# EAGLE library part XCV1000_FG680 (library xilinx-xcv)
xcv1000_fg680_1532 edit this description Auto generated by make-symbol-device-package-bsdl.ulp Rev. 26 Source: xcv1000_fg680_1532.bsd
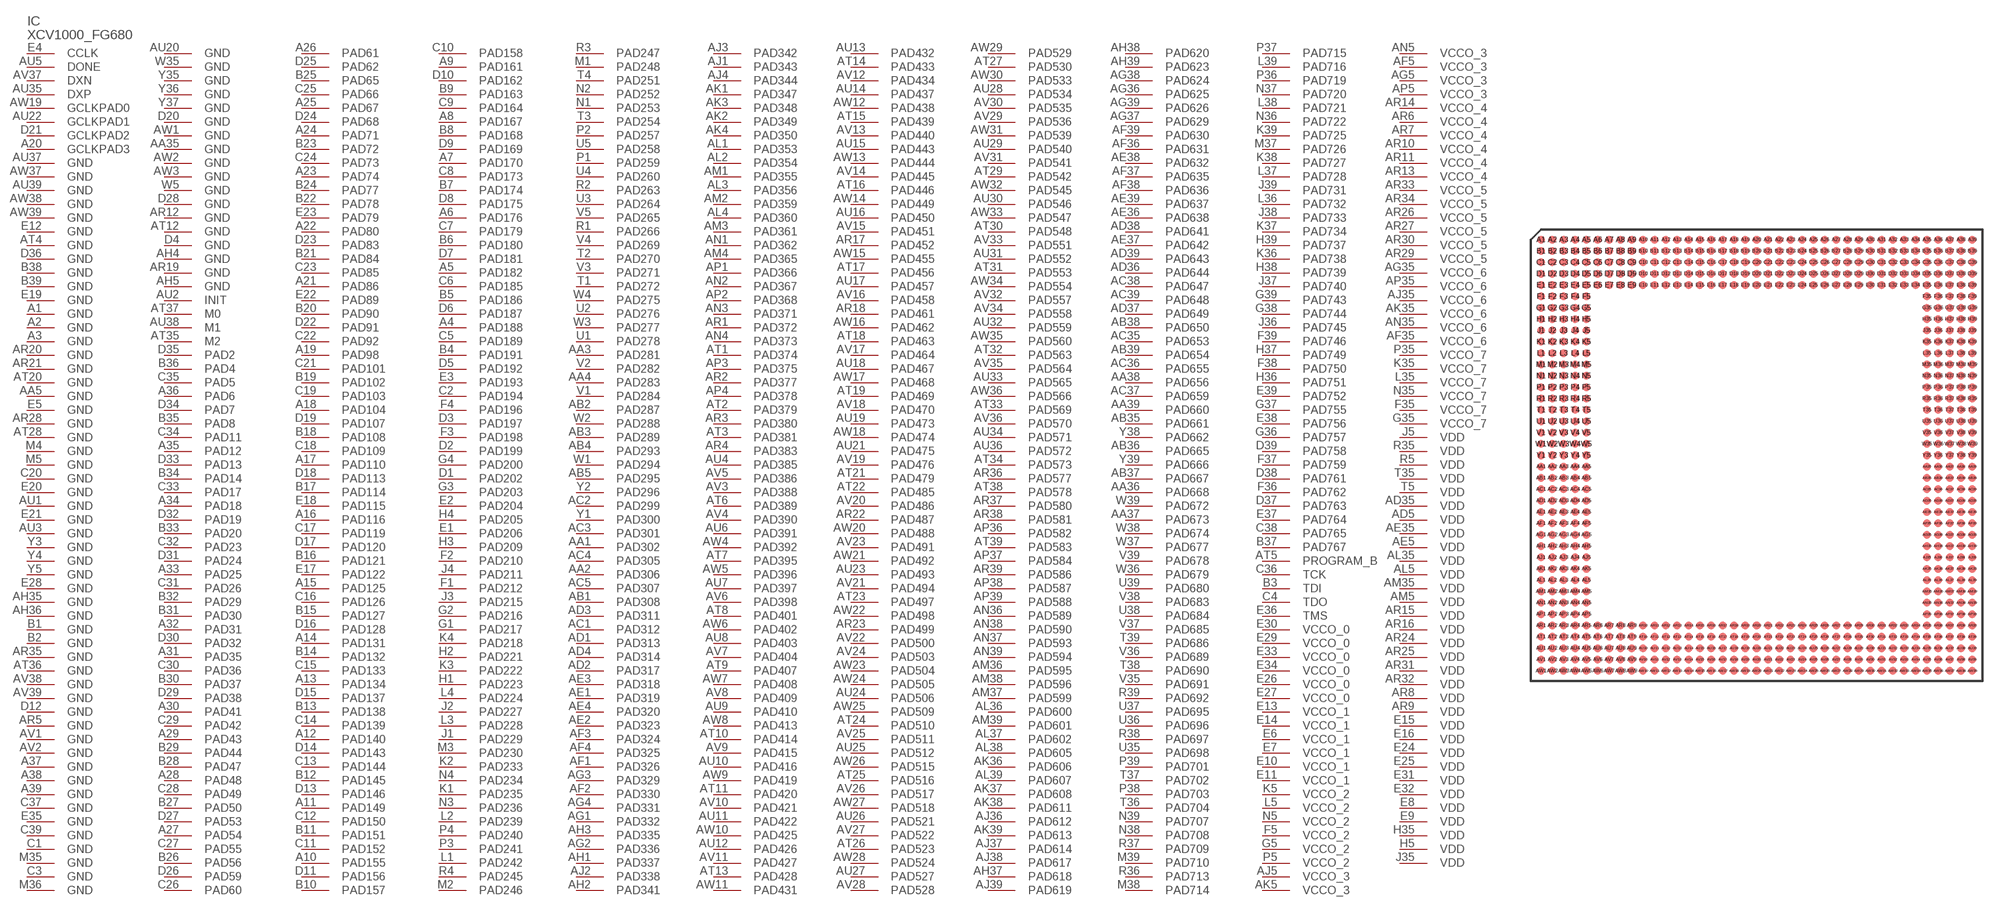
[diagram p7: symbol with the pads of FG680; footprint FG680]

Designator prefix IC

## XCV1000_FG680 (OC_FARNELL: unknown; OC_NEWARK: unknown)  [FG680]
A1  GND  pwr
A2  GND  pwr
A3  GND  pwr
A4  PAD188
A5  PAD182
A6  PAD176
A7  PAD170
A8  PAD167
A9  PAD161
A10  PAD155
A11  PAD149
A12  PAD140
A13  PAD134
A14  PAD131
A15  PAD125
A16  PAD116
A17  PAD110
A18  PAD104
A19  PAD98
A20  GCLKPAD3  in
A21  PAD86
A22  PAD80
A23  PAD74
A24  PAD71
A25  PAD67
A26  PAD61
A27  PAD54
A28  PAD48
A29  PAD43
A30  PAD41
A31  PAD35
A32  PAD31
A33  PAD25
A34  PAD18
A35  PAD12
A36  PAD6
A37  GND  pwr
A38  GND  pwr
A39  GND  pwr
AA1  PAD302
AA2  PAD306
AA3  PAD281
AA4  PAD283
AA5  GND  pwr
AA35  GND  pwr
AA36  PAD668
AA37  PAD673
AA38  PAD656
AA39  PAD660
AB1  PAD308
AB2  PAD287
AB3  PAD289
AB4  PAD293
AB5  PAD295
AB35  PAD661
AB36  PAD665
AB37  PAD667
AB38  PAD650
AB39  PAD654
AC1  PAD312
AC2  PAD299
AC3  PAD301
AC4  PAD305
AC5  PAD307
AC35  PAD653
AC36  PAD655
AC37  PAD659
AC38  PAD647
AC39  PAD648
AD1  PAD313
AD2  PAD317
AD3  PAD311
AD4  PAD314
AD5  VDD  pwr
AD35  VDD  pwr
AD36  PAD644
AD37  PAD649
AD38  PAD641
AD39  PAD643
AE1  PAD319
AE2  PAD323
AE3  PAD318
AE4  PAD320
AE5  VDD  pwr
AE35  VDD  pwr
AE36  PAD638
AE37  PAD642
AE38  PAD632
AE39  PAD637
AF1  PAD326
AF2  PAD330
AF3  PAD324
AF4  PAD325
AF5  VCCO_3  pwr
AF35  VCCO_6  pwr
AF36  PAD631
AF37  PAD635
AF38  PAD636
AF39  PAD630
AG1  PAD332
AG2  PAD336
AG3  PAD329
AG4  PAD331
AG5  VCCO_3  pwr
AG35  VCCO_6  pwr
AG36  PAD625
AG37  PAD629
AG38  PAD624
AG39  PAD626
AH1  PAD337
AH2  PAD341
AH3  PAD335
AH4  GND  pwr
AH5  GND  pwr
AH35  GND  pwr
AH36  GND  pwr
AH37  PAD618
AH38  PAD620
AH39  PAD623
AJ1  PAD343
AJ2  PAD338
AJ3  PAD342
AJ4  PAD344
AJ5  VCCO_3  pwr
AJ35  VCCO_6  pwr
AJ36  PAD612
AJ37  PAD614
AJ38  PAD617
AJ39  PAD619
AK1  PAD347
AK2  PAD349
AK3  PAD348
AK4  PAD350
AK5  VCCO_3  pwr
AK35  VCCO_6  pwr
AK36  PAD606
AK37  PAD608
AK38  PAD611
AK39  PAD613
AL1  PAD353
AL2  PAD354
AL3  PAD356
AL4  PAD360
AL5  VDD  pwr
AL35  VDD  pwr
AL36  PAD600
AL37  PAD602
AL38  PAD605
AL39  PAD607
AM1  PAD355
AM2  PAD359
AM3  PAD361
AM4  PAD365
AM5  VDD  pwr
AM35  VDD  pwr
AM36  PAD595
AM37  PAD599
AM38  PAD596
AM39  PAD601
AN1  PAD362
AN2  PAD367
AN3  PAD371
AN4  PAD373
AN5  VCCO_3  pwr
AN35  VCCO_6  pwr
AN36  PAD589
AN37  PAD593
AN38  PAD590
AN39  PAD594
AP1  PAD366
AP2  PAD368
AP3  PAD375
AP4  PAD378
AP5  VCCO_3  pwr
AP35  VCCO_6  pwr
AP36  PAD582
AP37  PAD584
AP38  PAD587
AP39  PAD588
AR1  PAD372
AR2  PAD377
AR3  PAD380
AR4  PAD383
AR5  GND  pwr
AR6  VCCO_4  pwr
AR7  VCCO_4  pwr
AR8  VDD  pwr
AR9  VDD  pwr
AR10  VCCO_4  pwr
AR11  VCCO_4  pwr
AR12  GND  pwr
AR13  VCCO_4  pwr
AR14  VCCO_4  pwr
AR15  VDD  pwr
AR16  VDD  pwr
AR17  PAD452
AR18  PAD461
AR19  GND  pwr
AR20  GND  pwr
AR21  GND  pwr
AR22  PAD487
AR23  PAD499
AR24  VDD  pwr
AR25  VDD  pwr
AR26  VCCO_5  pwr
AR27  VCCO_5  pwr
AR28  GND  pwr
AR29  VCCO_5  pwr
AR30  VCCO_5  pwr
AR31  VDD  pwr
AR32  VDD  pwr
AR33  VCCO_5  pwr
AR34  VCCO_5  pwr
AR35  GND  pwr
AR36  PAD577
AR37  PAD580
AR38  PAD581
AR39  PAD586
AT1  PAD374
AT2  PAD379
AT3  PAD381
AT4  GND  pwr
AT5  PROGRAM_B  in
AT6  PAD389
AT7  PAD395
AT8  PAD401
AT9  PAD407
AT10  PAD414
AT11  PAD420
AT12  GND  pwr
AT13  PAD428
AT14  PAD433
AT15  PAD439
AT16  PAD446
AT17  PAD456
AT18  PAD463
AT19  PAD469
AT20  GND  pwr
AT21  PAD479
AT22  PAD485
AT23  PAD497
AT24  PAD510
AT25  PAD516
AT26  PAD523
AT27  PAD530
AT28  GND  pwr
AT29  PAD542
AT30  PAD548
AT31  PAD553
AT32  PAD563
AT33  PAD569
AT34  PAD573
AT35  M2  in
AT36  GND  pwr
AT37  M0  in
AT38  PAD578
AT39  PAD583
AU1  GND  pwr
AU2  INIT
AU3  GND  pwr
AU4  PAD385
AU5  DONE
AU6  PAD391
AU7  PAD397
AU8  PAD403
AU9  PAD410
AU10  PAD416
AU11  PAD422
AU12  PAD426
AU13  PAD432
AU14  PAD437
AU15  PAD443
AU16  PAD450
AU17  PAD457
AU18  PAD467
AU19  PAD473
AU20  GND  pwr
AU21  PAD475
AU22  GCLKPAD1  in
AU23  PAD493
AU24  PAD506
AU25  PAD512
AU26  PAD521
AU27  PAD527
AU28  PAD534
AU29  PAD540
AU30  PAD546
AU31  PAD552
AU32  PAD559
AU33  PAD565
AU34  PAD571
AU35  DXP  pas
AU36  PAD572
AU37  GND  pwr
AU38  M1  in
AU39  GND  pwr
AV1  GND  pwr
AV2  GND  pwr
AV3  PAD388
AV4  PAD390
AV5  PAD386
AV6  PAD398
AV7  PAD404
AV8  PAD409
AV9  PAD415
AV10  PAD421
AV11  PAD427
AV12  PAD434
AV13  PAD440
AV14  PAD445
AV15  PAD451
AV16  PAD458
AV17  PAD464
AV18  PAD470
AV19  PAD476
AV20  PAD486
AV21  PAD494
AV22  PAD500
AV23  PAD491
AV24  PAD503
AV25  PAD511
AV26  PAD517
AV27  PAD522
AV28  PAD528
AV29  PAD536
AV30  PAD535
AV31  PAD541
AV32  PAD557
AV33  PAD551
AV34  PAD558
AV35  PAD564
AV36  PAD570
AV37  DXN  pas
AV38  GND  pwr
AV39  GND  pwr
AW1  GND  pwr
AW2  GND  pwr
AW3  GND  pwr
AW4  PAD392
AW5  PAD396
AW6  PAD402
AW7  PAD408
AW8  PAD413
AW9  PAD419
AW10  PAD425
AW11  PAD431
AW12  PAD438
AW13  PAD444
AW14  PAD449
AW15  PAD455
AW16  PAD462
AW17  PAD468
AW18  PAD474
AW19  GCLKPAD0  in
AW20  PAD488
AW21  PAD492
AW22  PAD498
AW23  PAD504
AW24  PAD505
AW25  PAD509
AW26  PAD515
AW27  PAD518
AW28  PAD524
AW29  PAD529
AW30  PAD533
AW31  PAD539
AW32  PAD545
AW33  PAD547
AW34  PAD554
AW35  PAD560
AW36  PAD566
AW37  GND  pwr
AW38  GND  pwr
AW39  GND  pwr
B1  GND  pwr
B2  GND  pwr
B3  TDI  in
B4  PAD191
B5  PAD186
B6  PAD180
B7  PAD174
B8  PAD168
B9  PAD163
B10  PAD157
B11  PAD151
B12  PAD145
B13  PAD138
B14  PAD132
B15  PAD127
B16  PAD121
B17  PAD114
B18  PAD108
B19  PAD102
B20  PAD90
B21  PAD84
B22  PAD78
B23  PAD72
B24  PAD77
B25  PAD65
B26  PAD56
B27  PAD50
B28  PAD47
B29  PAD44
B30  PAD37
B31  PAD30
B32  PAD29
B33  PAD20
B34  PAD14
B35  PAD8
B36  PAD4
B37  PAD767
B38  GND  pwr
B39  GND  pwr
C1  GND  pwr
C2  PAD194
C3  GND  pwr
C4  TDO  out
C5  PAD189
C6  PAD185
C7  PAD179
C8  PAD173
C9  PAD164
C10  PAD158
C11  PAD152
C12  PAD150
C13  PAD144
C14  PAD139
C15  PAD133
C16  PAD126
C17  PAD119
C18  PAD109
C19  PAD103
C20  GND  pwr
C21  PAD101
C22  PAD92
C23  PAD85
C24  PAD73
C25  PAD66
C26  PAD60
C27  PAD55
C28  PAD49
C29  PAD42
C30  PAD36
C31  PAD26
C32  PAD23
C33  PAD17
C34  PAD11
C35  PAD5
C36  TCK  in
C37  GND  pwr
C38  PAD765
C39  GND  pwr
D1  PAD202
D2  PAD199
D3  PAD197
D4  GND  pwr
D5  PAD192
D6  PAD187
D7  PAD181
D8  PAD175
D9  PAD169
D10  PAD162
D11  PAD156
D12  GND  pwr
D13  PAD146
D14  PAD143
D15  PAD137
D16  PAD128
D17  PAD120
D18  PAD113
D19  PAD107
D20  GND  pwr
D21  GCLKPAD2  in
D22  PAD91
D23  PAD83
D24  PAD68
D25  PAD62
D26  PAD59
D27  PAD53
D28  GND  pwr
D29  PAD38
D30  PAD32
D31  PAD24
D32  PAD19
D33  PAD13
D34  PAD7
D35  PAD2
D36  GND  pwr
D37  PAD763
D38  PAD761
D39  PAD758
E1  PAD206
E2  PAD204
E3  PAD193
E4  CCLK
E5  GND  pwr
E6  VCCO_1  pwr
E7  VCCO_1  pwr
E8  VDD  pwr
E9  VDD  pwr
E10  VCCO_1  pwr
E11  VCCO_1  pwr
E12  GND  pwr
E13  VCCO_1  pwr
E14  VCCO_1  pwr
E15  VDD  pwr
E16  VDD  pwr
E17  PAD122
E18  PAD115
E19  GND  pwr
E20  GND  pwr
E21  GND  pwr
E22  PAD89
E23  PAD79
E24  VDD  pwr
E25  VDD  pwr
E26  VCCO_0  pwr
E27  VCCO_0  pwr
E28  GND  pwr
E29  VCCO_0  pwr
E30  VCCO_0  pwr
E31  VDD  pwr
E32  VDD  pwr
E33  VCCO_0  pwr
E34  VCCO_0  pwr
E35  GND  pwr
E36  TMS  in
E37  PAD764
E38  PAD756
E39  PAD752
F1  PAD212
F2  PAD210
F3  PAD198
F4  PAD196
F5  VCCO_2  pwr
F35  VCCO_7  pwr
F36  PAD762
F37  PAD759
F38  PAD750
F39  PAD746
G1  PAD217
G2  PAD216
G3  PAD203
G4  PAD200
G5  VCCO_2  pwr
G35  VCCO_7  pwr
G36  PAD757
G37  PAD755
G38  PAD744
G39  PAD743
H1  PAD223
H2  PAD221
H3  PAD209
H4  PAD205
H5  VDD  pwr
H35  VDD  pwr
H36  PAD751
H37  PAD749
H38  PAD739
H39  PAD737
J1  PAD229
J2  PAD227
J3  PAD215
J4  PAD211
J5  VDD  pwr
J35  VDD  pwr
J36  PAD745
J37  PAD740
J38  PAD733
J39  PAD731
K1  PAD235
K2  PAD233
K3  PAD222
K4  PAD218
K5  VCCO_2  pwr
K35  VCCO_7  pwr
K36  PAD738
K37  PAD734
K38  PAD727
K39  PAD725
L1  PAD242
L2  PAD239
L3  PAD228
L4  PAD224
L5  VCCO_2  pwr
L35  VCCO_7  pwr
L36  PAD732
L37  PAD728
L38  PAD721
L39  PAD716
M1  PAD248
M2  PAD246
M3  PAD230
M4  GND  pwr
M5  GND  pwr
M35  GND  pwr
M36  GND  pwr
M37  PAD726
M38  PAD714
M39  PAD710
N1  PAD253
N2  PAD252
N3  PAD236
N4  PAD234
N5  VCCO_2  pwr
N35  VCCO_7  pwr
N36  PAD722
N37  PAD720
N38  PAD708
N39  PAD707
P1  PAD259
P2  PAD257
P3  PAD241
P4  PAD240
P5  VCCO_2  pwr
P35  VCCO_7  pwr
P36  PAD719
P37  PAD715
P38  PAD703
P39  PAD701
R1  PAD266
R2  PAD263
R3  PAD247
R4  PAD245
R5  VDD  pwr
R35  VDD  pwr
R36  PAD713
R37  PAD709
R38  PAD697
R39  PAD692
T1  PAD272
T2  PAD270
T3  PAD254
T4  PAD251
T5  VDD  pwr
T35  VDD  pwr
T36  PAD704
T37  PAD702
T38  PAD690
T39  PAD686
U1  PAD278
U2  PAD276
U3  PAD264
U4  PAD260
U5  PAD258
U35  PAD698
U36  PAD696
U37  PAD695
U38  PAD684
U39  PAD680
V1  PAD284
V2  PAD282
V3  PAD271
V4  PAD269
V5  PAD265
V35  PAD691
V36  PAD689
V37  PAD685
V38  PAD683
V39  PAD678
W1  PAD294
W2  PAD288
W3  PAD277
W4  PAD275
W5  GND  pwr
W35  GND  pwr
W36  PAD679
W37  PAD677
W38  PAD674
W39  PAD672
Y1  PAD300
Y2  PAD296
Y3  GND  pwr
Y4  GND  pwr
Y5  GND  pwr
Y35  GND  pwr
Y36  GND  pwr
Y37  GND  pwr
Y38  PAD662
Y39  PAD666

## Footprint FG680 (pad centres in mm)
xcv1000_fg680_1532 edit this description Auto generated by make-symbol-device-package-bsdl.ulp Rev. 26 Source: xcv1000_fg680_1532.bsd
smd 0.7 x 0.7: A1 -19,19; A2 -18,19; A3 -17,19; A4 -16,19; A5 -15,19; A6 -14,19; A7 -13,19; A8 -12,19; A9 -11,19; A10 -10,19; A11 -9,19; A12 -8,19; A13 -7,19; A14 -6,19; A15 -5,19; A16 -4,19; A17 -3,19; A18 -2,19; A19 -1,19; A20 0,19; A21 1,19; A22 2,19; A23 3,19; A24 4,19; A25 5,19; A26 6,19; A27 7,19; A28 8,19; A29 9,19; A30 10,19; A31 11,19; A32 12,19; A33 13,19; A34 14,19; A35 15,19; A36 16,19; A37 17,19; A38 18,19; A39 19,19; AA1 -19,-1; AA2 -18,-1; AA3 -17,-1; AA4 -16,-1; AA5 -15,-1; AA35 15,-1; AA36 16,-1; AA37 17,-1; AA38 18,-1; AA39 19,-1; AB1 -19,-2; AB2 -18,-2; AB3 -17,-2; AB4 -16,-2; AB5 -15,-2; AB35 15,-2; AB36 16,-2; AB37 17,-2; AB38 18,-2; AB39 19,-2; AC1 -19,-3; AC2 -18,-3; AC3 -17,-3; AC4 -16,-3; AC5 -15,-3; AC35 15,-3; AC36 16,-3; AC37 17,-3; AC38 18,-3; AC39 19,-3; AD1 -19,-4; AD2 -18,-4; AD3 -17,-4; AD4 -16,-4; AD5 -15,-4; AD35 15,-4; AD36 16,-4; AD37 17,-4; AD38 18,-4; AD39 19,-4; AE1 -19,-5; AE2 -18,-5; AE3 -17,-5; AE4 -16,-5; AE5 -15,-5; AE35 15,-5; AE36 16,-5; AE37 17,-5; AE38 18,-5; AE39 19,-5; AF1 -19,-6; AF2 -18,-6; AF3 -17,-6; AF4 -16,-6; AF5 -15,-6; AF35 15,-6; AF36 16,-6; AF37 17,-6; AF38 18,-6; AF39 19,-6; AG1 -19,-7; AG2 -18,-7; AG3 -17,-7; AG4 -16,-7; AG5 -15,-7; AG35 15,-7; AG36 16,-7; AG37 17,-7; AG38 18,-7; AG39 19,-7; AH1 -19,-8; AH2 -18,-8; AH3 -17,-8; AH4 -16,-8; AH5 -15,-8; AH35 15,-8; AH36 16,-8; AH37 17,-8; AH38 18,-8; AH39 19,-8; AJ1 -19,-9; AJ2 -18,-9; AJ3 -17,-9; AJ4 -16,-9; AJ5 -15,-9; AJ35 15,-9; AJ36 16,-9; AJ37 17,-9; AJ38 18,-9; AJ39 19,-9; AK1 -19,-10; AK2 -18,-10; AK3 -17,-10; AK4 -16,-10; AK5 -15,-10; AK35 15,-10; AK36 16,-10; AK37 17,-10; AK38 18,-10; AK39 19,-10; AL1 -19,-11; AL2 -18,-11; AL3 -17,-11; AL4 -16,-11; AL5 -15,-11; AL35 15,-11; AL36 16,-11; AL37 17,-11; AL38 18,-11; AL39 19,-11; AM1 -19,-12; AM2 -18,-12; AM3 -17,-12; AM4 -16,-12; AM5 -15,-12; AM35 15,-12; AM36 16,-12; AM37 17,-12; AM38 18,-12; AM39 19,-12; AN1 -19,-13; AN2 -18,-13; AN3 -17,-13; AN4 -16,-13; AN5 -15,-13; AN35 15,-13; AN36 16,-13; AN37 17,-13; AN38 18,-13; AN39 19,-13; AP1 -19,-14; AP2 -18,-14; AP3 -17,-14; AP4 -16,-14; AP5 -15,-14; AP35 15,-14; AP36 16,-14; AP37 17,-14; AP38 18,-14; AP39 19,-14; AR1 -19,-15; AR2 -18,-15; AR3 -17,-15; AR4 -16,-15; AR5 -15,-15; AR6 -14,-15; AR7 -13,-15; AR8 -12,-15; AR9 -11,-15; AR10 -10,-15; AR11 -9,-15; AR12 -8,-15; AR13 -7,-15; AR14 -6,-15; AR15 -5,-15; AR16 -4,-15; AR17 -3,-15; AR18 -2,-15; AR19 -1,-15; AR20 0,-15; AR21 1,-15; AR22 2,-15; AR23 3,-15; AR24 4,-15; AR25 5,-15; AR26 6,-15; AR27 7,-15; AR28 8,-15; AR29 9,-15; AR30 10,-15; AR31 11,-15; AR32 12,-15; AR33 13,-15; AR34 14,-15; AR35 15,-15; AR36 16,-15; AR37 17,-15; AR38 18,-15; AR39 19,-15; AT1 -19,-16; AT2 -18,-16; AT3 -17,-16; AT4 -16,-16; AT5 -15,-16; AT6 -14,-16; AT7 -13,-16; AT8 -12,-16; AT9 -11,-16; AT10 -10,-16; AT11 -9,-16; AT12 -8,-16; AT13 -7,-16; AT14 -6,-16; AT15 -5,-16; AT16 -4,-16; AT17 -3,-16; AT18 -2,-16; AT19 -1,-16; AT20 0,-16; AT21 1,-16; AT22 2,-16; AT23 3,-16; AT24 4,-16; AT25 5,-16; AT26 6,-16; AT27 7,-16; AT28 8,-16; AT29 9,-16; AT30 10,-16; AT31 11,-16; AT32 12,-16; AT33 13,-16; AT34 14,-16; AT35 15,-16; AT36 16,-16; AT37 17,-16; AT38 18,-16; AT39 19,-16; AU1 -19,-17; AU2 -18,-17; AU3 -17,-17; AU4 -16,-17; AU5 -15,-17; AU6 -14,-17; AU7 -13,-17; AU8 -12,-17; AU9 -11,-17; AU10 -10,-17; AU11 -9,-17; AU12 -8,-17; AU13 -7,-17; AU14 -6,-17; AU15 -5,-17; AU16 -4,-17; AU17 -3,-17; AU18 -2,-17; AU19 -1,-17; AU20 0,-17; AU21 1,-17; AU22 2,-17; AU23 3,-17; AU24 4,-17; AU25 5,-17; AU26 6,-17; AU27 7,-17; AU28 8,-17; AU29 9,-17; AU30 10,-17; AU31 11,-17; AU32 12,-17; AU33 13,-17; AU34 14,-17; AU35 15,-17; AU36 16,-17; AU37 17,-17; AU38 18,-17; AU39 19,-17; AV1 -19,-18; AV2 -18,-18; AV3 -17,-18; AV4 -16,-18; AV5 -15,-18; AV6 -14,-18; AV7 -13,-18; AV8 -12,-18; AV9 -11,-18; AV10 -10,-18; AV11 -9,-18; AV12 -8,-18; AV13 -7,-18; AV14 -6,-18; AV15 -5,-18; AV16 -4,-18; AV17 -3,-18; AV18 -2,-18; AV19 -1,-18; AV20 0,-18; AV21 1,-18; AV22 2,-18; AV23 3,-18; AV24 4,-18; AV25 5,-18; AV26 6,-18; AV27 7,-18; AV28 8,-18; AV29 9,-18; AV30 10,-18; AV31 11,-18; AV32 12,-18; AV33 13,-18; AV34 14,-18; AV35 15,-18; AV36 16,-18; AV37 17,-18; AV38 18,-18; AV39 19,-18; AW1 -19,-19; AW2 -18,-19; AW3 -17,-19; AW4 -16,-19; AW5 -15,-19; AW6 -14,-19; AW7 -13,-19; AW8 -12,-19; AW9 -11,-19; AW10 -10,-19; AW11 -9,-19; AW12 -8,-19; AW13 -7,-19; AW14 -6,-19; AW15 -5,-19; AW16 -4,-19; AW17 -3,-19; AW18 -2,-19; AW19 -1,-19; AW20 0,-19; AW21 1,-19; AW22 2,-19; AW23 3,-19; AW24 4,-19; AW25 5,-19; AW26 6,-19; AW27 7,-19; AW28 8,-19; AW29 9,-19; AW30 10,-19; AW31 11,-19; AW32 12,-19; AW33 13,-19; AW34 14,-19; AW35 15,-19; AW36 16,-19; AW37 17,-19; AW38 18,-19; AW39 19,-19; B1 -19,18; B2 -18,18; B3 -17,18; B4 -16,18; B5 -15,18; B6 -14,18; B7 -13,18; B8 -12,18; B9 -11,18; B10 -10,18; B11 -9,18; B12 -8,18; B13 -7,18; B14 -6,18; B15 -5,18; B16 -4,18; B17 -3,18; B18 -2,18; B19 -1,18; B20 0,18; B21 1,18; B22 2,18; B23 3,18; B24 4,18; B25 5,18; B26 6,18; B27 7,18; B28 8,18; B29 9,18; B30 10,18; B31 11,18; B32 12,18; B33 13,18; B34 14,18; B35 15,18; B36 16,18; B37 17,18; B38 18,18; B39 19,18; C1 -19,17; C2 -18,17; C3 -17,17; C4 -16,17; C5 -15,17; C6 -14,17; C7 -13,17; C8 -12,17; C9 -11,17; C10 -10,17; C11 -9,17; C12 -8,17; C13 -7,17; C14 -6,17; C15 -5,17; C16 -4,17; C17 -3,17; C18 -2,17; C19 -1,17; C20 0,17; C21 1,17; C22 2,17; C23 3,17; C24 4,17; C25 5,17; C26 6,17; C27 7,17; C28 8,17; C29 9,17; C30 10,17; C31 11,17; C32 12,17; C33 13,17; C34 14,17; C35 15,17; C36 16,17; C37 17,17; C38 18,17; C39 19,17; D1 -19,16; D2 -18,16; D3 -17,16; D4 -16,16; D5 -15,16; D6 -14,16; D7 -13,16; D8 -12,16; D9 -11,16; D10 -10,16; D11 -9,16; D12 -8,16; D13 -7,16; D14 -6,16; D15 -5,16; D16 -4,16; D17 -3,16; D18 -2,16; D19 -1,16; D20 0,16; D21 1,16; D22 2,16; D23 3,16; D24 4,16; D25 5,16; D26 6,16; D27 7,16; D28 8,16; D29 9,16; D30 10,16; D31 11,16; D32 12,16; D33 13,16; D34 14,16; D35 15,16; D36 16,16; D37 17,16; D38 18,16; D39 19,16; E1 -19,15; E2 -18,15; E3 -17,15; E4 -16,15; E5 -15,15; E6 -14,15; E7 -13,15; E8 -12,15; E9 -11,15; E10 -10,15; E11 -9,15; E12 -8,15; E13 -7,15; E14 -6,15; E15 -5,15; E16 -4,15; E17 -3,15; E18 -2,15; E19 -1,15; E20 0,15; E21 1,15; E22 2,15; E23 3,15; E24 4,15; E25 5,15; E26 6,15; E27 7,15; E28 8,15; E29 9,15; E30 10,15; E31 11,15; E32 12,15; E33 13,15; E34 14,15; E35 15,15; E36 16,15; E37 17,15; E38 18,15; E39 19,15; F1 -19,14; F2 -18,14; F3 -17,14; F4 -16,14; F5 -15,14; F35 15,14; F36 16,14; F37 17,14; F38 18,14; F39 19,14; G1 -19,13; G2 -18,13; G3 -17,13; G4 -16,13; G5 -15,13; G35 15,13; G36 16,13; G37 17,13; G38 18,13; G39 19,13; H1 -19,12; H2 -18,12; H3 -17,12; H4 -16,12; H5 -15,12; H35 15,12; H36 16,12; H37 17,12; H38 18,12; H39 19,12; J1 -19,11; J2 -18,11; J3 -17,11; J4 -16,11; J5 -15,11; J35 15,11; J36 16,11; J37 17,11; J38 18,11; J39 19,11; K1 -19,10; K2 -18,10; K3 -17,10; K4 -16,10; K5 -15,10; K35 15,10; K36 16,10; K37 17,10; K38 18,10; K39 19,10; L1 -19,9; L2 -18,9; L3 -17,9; L4 -16,9; L5 -15,9; L35 15,9; L36 16,9; L37 17,9; L38 18,9; L39 19,9; M1 -19,8; M2 -18,8; M3 -17,8; M4 -16,8; M5 -15,8; M35 15,8; M36 16,8; M37 17,8; M38 18,8; M39 19,8; N1 -19,7; N2 -18,7; N3 -17,7; N4 -16,7; N5 -15,7; N35 15,7; N36 16,7; N37 17,7; N38 18,7; N39 19,7; P1 -19,6; P2 -18,6; P3 -17,6; P4 -16,6; P5 -15,6; P35 15,6; P36 16,6; P37 17,6; P38 18,6; P39 19,6; R1 -19,5; R2 -18,5; R3 -17,5; R4 -16,5; R5 -15,5; R35 15,5; R36 16,5; R37 17,5; R38 18,5; R39 19,5; T1 -19,4; T2 -18,4; T3 -17,4; T4 -16,4; T5 -15,4; T35 15,4; T36 16,4; T37 17,4; T38 18,4; T39 19,4; U1 -19,3; U2 -18,3; U3 -17,3; U4 -16,3; U5 -15,3; U35 15,3; U36 16,3; U37 17,3; U38 18,3; U39 19,3; V1 -19,2; V2 -18,2; V3 -17,2; V4 -16,2; V5 -15,2; V35 15,2; V36 16,2; V37 17,2; V38 18,2; V39 19,2; W1 -19,1; W2 -18,1; W3 -17,1; W4 -16,1; W5 -15,1; W35 15,1; W36 16,1; W37 17,1; W38 18,1; W39 19,1; Y1 -19,0; Y2 -18,0; Y3 -17,0; Y4 -16,0; Y5 -15,0; Y35 15,0; Y36 16,0; Y37 17,0; Y38 18,0; Y39 19,0